# Altium schematic symbol library resistor.SchLib: 126 symbols
Pins are listed as number, name and electrical type; pins without a type are passive.

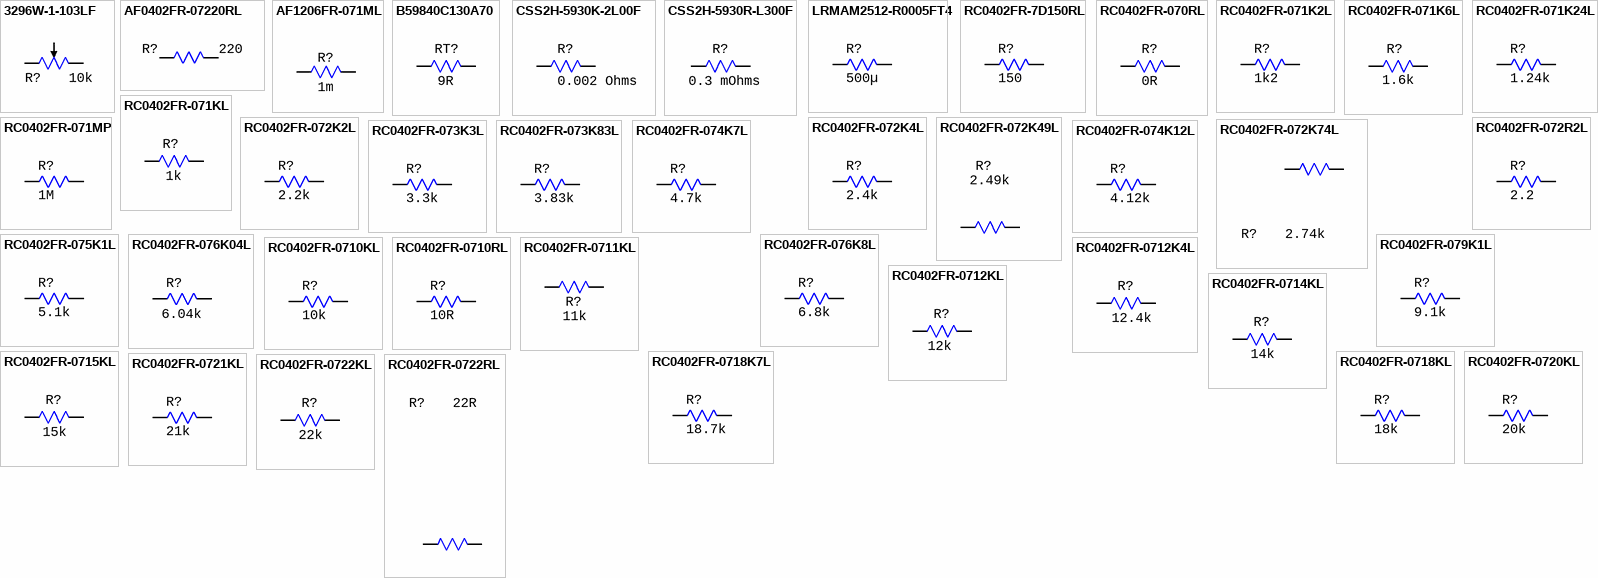
[diagram p0: symbols 3296W-1-103LF to RC0402FR-0722RL]

## 3296W-1-103LF
designator R?  value 10k  (hidden comment: 3296W-1-103LF)
10 kOhms, trimmer, ±10%, 0.5W, -55...+150°C; Manufacturer: Bourns; Package: series 3296W; PartNumber: 3296W-1-103LF; HelpURL: https://www.mouser.com/ProductDetail/Bourns/3296W-1-103LF?qs=CL3xLxiry19Id6AEaxYcng%3D%3D; Manufacturer Part Number: 3296W-1-103LF; Component Type: Resistors
footprint RES: 3296W
pins: 1, 2, 3

## AF0402FR-07220RL
designator R?  value 220  (hidden comment: AF0402FR-07220RL)
220 Ohms, 0402, ±1%, 0.062W, -55...+155°C; Manufacturer: YAGEO; HelpURL: https://www.mouser.com/ProductDetail/YAGEO/AF0402FR-07220RL?qs=sGAEpiMZZMtlubZbdhIBINhe0vL5TjR%2FCrYWG0wbUXU%3D; Package: 0402; PartNumber: AF0402FR-07220RL; Manufacturer: Yageo; Manufacturer Part Number: AF0402FR-07220RL; Component Type: Resistors
footprint RES: 0402
pins: 1, 2

## AF1206FR-071ML
designator R?  value 1m  (hidden comment: AF1206FR-071ML)
1 mOhm, 1206, ±1%, 0.25W, -55...+155°C; Manufacturer: YAGEO; HelpURL: https://ru.mouser.com/ProductDetail/YAGEO/AF1206FR-071ML?qs=tggtontpCXPv%2F48xNJRS4w%3D%3D; Package: 1206; PartNumber: AF1206FR-071ML; Manufacturer: Yageo; Manufacturer Part Number: AF1206FR-071ML; Component Type: Resistors
footprint RES: 1206
pins: 1, 2

## B59840C130A70
designator RT?  value 9R  (hidden comment: B59840C130A70)
9 Ohm, 13.5W, 500mA, 265V, D13.5W5H17, -55...+155°C; Manufacturer: Epcos; Manufacturer: TDK EPCOS; PartNumber: B59840C130A70; Package: 13.5W; HelpURL: https://eu.mouser.com/ProductDetail/EPCOS-TDK/B59840C0130A070?qs=MD70nW2XBGhFS7Nl3HSSzQ%3D%3D; Manufacturer Part Number: B59840C130A70; Component Type: Resistors
footprint RES: B59840C0130A070 (NTC)
pins: 1, 2

## CSS2H-5930K-2L00F
designator R?  value 0.002 Ohms  (hidden comment: CSS2H-5930K-2L00F)
0.002 Ohms, 2512, ±1%, 7W, -55...+170°C; Manufacturer: Bourns; PartNumber: CSS2H-5930K-2L00F; Package: 2512; HelpURL: https://ru.mouser.com/ProductDetail/Bourns/CSS2H-5930K-2L00F?qs=pxDZlBjcsCjmzKdgPBLOvQ%3D%3D
footprint RES: CSS2H (2512)
pins: 1, 2

## CSS2H-5930R-L300F
designator R?  value 0.3 mOhms  (hidden comment: CSS2H-5930R-L300F)
0.0003 Ohms, 2512, ±1%, 10W, -55...+170°C; Manufacturer: Bourns; PartNumber: CSS2H-5930R-L300F; Package: 2512; HelpURL: https://eu.mouser.com/ProductDetail/Bourns/CSS2H-5930R-L300F?qs=gZXFycFWdAPRQ8mnWAaExg%3D%3D
footprint RES: CSS2H (2512)
pins: 1, 2

## LRMAM2512-R0005FT4
designator R?  value 500µ  (hidden comment: LRMAM2512-R0005FT4)
0.5 mOhms, 2512, ±1%, 2W, -55...+170°C; Manufacturer: Welwyn; Manufacturer: TT Welwyn; HelpURL: https://ru.mouser.com/ProductDetail/Welwyn-Components-TT-Electronics/LRMAM2512-R0005FT4?qs=Yv8AqEUUgblwdfnpMPIknw%3D%3D; Package: 2512; PartNumber: LRMAM2512-R0005FT4; Manufacturer Part Number: LRMAM2512-R0005FT4; Component Type: Resistors
footprint RES: CSS2H (2512)
pins: 1, 2

## RC0402FR-7D150RL
designator R?  value 150  (hidden comment: RC0402FR-7D150RL)
150 Ohms, 0402, ±1%, 0.062W, -55...+155°C; Manufacturer: YAGEO; HelpURL: https://www.mouser.com/ProductDetail/YAGEO/RC0402FR-7D150RL?qs=sGAEpiMZZMtlubZbdhIBIAA5Rg%252BBqQHDXGXKYF%252BGXxw%3D; Package: 0402; PartNumber: RC0402FR-7D150RL; Manufacturer: Yageo; Manufacturer Part Number: RC0402FR-7D150RL; Component Type: Resistors
footprint RES: 0402
pins: 1, 2

## RC0402FR-070RL
designator R?  value 0R  (hidden comment: RC0402FR-070RL)
0 Ohms, 0402, ±1%, 0.062W, -55...+155°C; Manufacturer: Yageo; HelpURL: https://ru.mouser.com/ProductDetail/YAGEO/RC0402FR-070RL?qs=%2Fha2pyFaduhjtLcYvKXQ8C3M6h5LO%252B8bxxSVLF2BfkIYKpoExpS33A%3D%3D; PartNumber: RC0402FR-070RL; Package: 0402
footprint RES: 0402
pins: 1, 2

## RC0402FR-071K2L
designator R?  value 1k2  (hidden comment: RC0402FR-071K2L)
1.2 kOhm, 0402, ±1%, 0.062W, -55...+155°C; Manufacturer: Yageo; HelpURL: https://eu.mouser.com/ProductDetail/YAGEO/RC0402FR-071K2L?qs=sxZXDnvRBEhCt6dYrGrAQg%3D%3D; PartNumber: RC0402FR-071K2L; Package: 0402; Manufacturer Part Number: RC0402FR-071K2L; Component Type: Resistors
footprint RES: 0402
pins: 1, 2

## RC0402FR-071K6L
designator R?  value 1.6k  (hidden comment: RC0402FR-071K6L)
1.6 kOhms, 0402, ±1%, 0.062W, -55...+155°C; Manufacturer: Yageo; PartNumber: RC0402FR-071K6L; Package: 0402; HelpURL: https://ru.mouser.com/ProductDetail/YAGEO/RC0402FR-071K6L?qs=sxZXDnvRBEhm2IP6skMAcA%3D%3D; Manufacturer Part Number: RC0402FR-071K6L; Component Type: Resistors
footprint RES: 0402
pins: 1, 2

## RC0402FR-071K24L
designator R?  value 1.24k  (hidden comment: RC0402FR-071K24L)
1.24 kOhm, 0402, ±1%, 0.062W, -55...+155°C; Manufacturer: Yageo; Package: 0402; HelpURL: https://ru.mouser.com/ProductDetail/YAGEO/RC0402FR-071K24L?qs=4sq2y2bXwtQ3prtaMGN85w%3D%3D; PartNumber: RC0402FR-071K24L; Manufacturer Part Number: RC0402FR-071K24L; Component Type: Resistors
footprint RES: 0402
pins: 1, 2

## RC0402FR-071KL
designator R?  value 1k  (hidden comment: RC0402FR-071KL)
1 kOhm, 0402, ±1%, 0.062W, -55...+155°C; Manufacturer: Yageo; Package: 0402; PartNumber: RC0402FR-071KL; HelpURL: https://ru.mouser.com/ProductDetail/YAGEO/RC0402FR-071KL?qs=%2Fha2pyFaduhjtLcYvKXQ8KtFpWiP6FBRlw%252BwtvFACrzdbnVHgS60sg%3D%3D; Manufacturer Part Number: RC0402FR-071KL; Component Type: Resistors
footprint RES: 0402
pins: 1, 2

## RC0402FR-071MP
designator R?  value 1M  (hidden comment: RC0402FR-071MP)
1 MOhms, 0402, ±1%, 0.062W, -55...+155°C; Manufacturer: Yageo; PartNumber: RC0402FR-0793K1L; HelpURL: https://ru.mouser.com/ProductDetail/YAGEO/RC0402FR-071MP?qs=qpJ%252B%252B%252Bdg6p3ZHXW8hUlwzA%3D%3D; Package: 0402; Manufacturer Part Number: RC0402FR-071MP; Component Type: Resistors
footprint RES: 0402
pins: 1, 2

## RC0402FR-072K2L
designator R?  value 2.2k  (hidden comment: RC0402FR-072K2L)
2.2 kOhm, 0402, ±1%, 0.062W, -55...+155°C; Manufacturer: Yageo; Package: 0402; HelpURL: https://ru.mouser.com/ProductDetail/YAGEO/RC0402FR-072K2L?qs=%2Fha2pyFaduhjtLcYvKXQ8Bly%252BzpVgJqiuT0bye1WgWY%252B2iQPPgiVcg%3D%3D; PartNumber: RC0402FR-072K2L; Manufacturer Part Number: RC0402FR-072K2L; Component Type: Resistors
footprint RES: 0402
pins: 1, 2

## RC0402FR-072K4L
designator R?  value 2.4k  (hidden comment: RC0402FR-072K4L)
2.4 kOhm, 0402, ±1%, 0.062W, -55...+155°C; Manufacturer: Yageo; HelpURL: https://ru.mouser.com/ProductDetail/YAGEO/RC0402FR-072K4L?qs=UOUeRUa%252B8WnYYHH1JUkaSg%3D%3D; PartNumber: RC0402FR-072K4L; Package: 0402; Manufacturer Part Number: RC0402FR-072K4L; Component Type: Resistors
footprint RES: 0402
pins: 1, 2

## RC0402FR-072K49L
designator R?  value 2.49k  (hidden comment: RC0402FR-072K49L)
2.49 kOhm, 0402, ±1%, 0.062W, -55...+155°C; Manufacturer: Yageo; Package: 0402; PartNumber: RC0402FR-072K49L; HelpURL: https://eu.mouser.com/ProductDetail/YAGEO/RC0402FR-072K49L?qs=UOUeRUa%252B8WlwugWWtNNFpA%3D%3D; Manufacturer Part Number: RC0402FR-072K49L; Component Type: Resistors
footprint RES: 0402
pins: 1, 2

## RC0402FR-072K74L
designator R?  value 2.74k  (hidden comment: RC0402FR-072K74L)
2.74 kOhm, 0402, ±1%, 0.062W, -55...+155°C; Manufacturer: Yageo; Package: 0402; HelpURL: https://eu.mouser.com/ProductDetail/YAGEO/RC0402FR-072K74L?qs=V1yeUXFNrknJurbbD6Ur7A%3D%3D; PartNumber: RC0402FR-072K74L; Manufacturer Part Number: RC0402FR-072K74L; Component Type: Resistors
footprint RES: 0402
pins: 1, 2

## RC0402FR-072R2L
designator R?  value 2.2  (hidden comment: RC0402FR-072R2L)
2.2 Ohms, 0402, ±1%, 0.062W, -55...+155°C; Manufacturer: YAGEO; HelpURL: https://www.mouser.com/ProductDetail/YAGEO/RC0402FR-072R2L?qs=UOUeRUa%252B8WnU2b4Yaynl8g%3D%3D; PartNumber: RC0402FR-072R2L; Package: 0402; Manufacturer: Yageo; Manufacturer Part Number: RC0402FR-072R2L; Component Type: Resistors
footprint RES: 0402
pins: 1, 2

## RC0402FR-073K3L
designator R?  value 3.3k  (hidden comment: RC0402FR-073K3L)
3.3 kOhms, 0402, ±1%, 0.062W, -55...+155°C; Manufacturer: Yageo; Package: 0402; HelpURL: https://ru.mouser.com/ProductDetail/YAGEO/RC0402FR-073K3L?qs=%2Fha2pyFaduhjtLcYvKXQ8A9%2FIeuVIknrUTSq06xzlcmN78Uwcky75Q%3D%3D; PartNumber: RC0402FR-073K3L; Manufacturer Part Number: RC0402FR-073K3L; Component Type: Resistors
footprint RES: 0402
pins: 1, 2

## RC0402FR-073K83L
designator R?  value 3.83k  (hidden comment: RC0402FR-073K83L)
3.83 kOhms, 0402, ±1%, 0.062W, -55...+155°C; Manufacturer: Yageo; HelpURL: https://ru.mouser.com/ProductDetail/YAGEO/RC0402FR-073K83L?qs=uhiLka0QEaGZwk9iwOUzXA%3D%3D; Package: 0402; PartNumber: RC0402FR-073K83L; Manufacturer Part Number: RC0402FR-073K83L; Component Type: Resistors
footprint RES: 0402
pins: 1, 2

## RC0402FR-074K7L
designator R?  value 4.7k  (hidden comment: RC0402FR-074K7L)
4.7 kOhms, 0402, ±1%, 0.062W, -55...+155°C; Manufacturer: Yageo; HelpURL: https://ru.mouser.com/ProductDetail/YAGEO/RC0402FR-074K7L?qs=%2Fha2pyFaduhjtLcYvKXQ8HFlCsu%2FACgGUE09U4u%2FNk2eg7lEE%252Bz%2FpQ%3D%3D; PartNumber: RC0402FR-074K7L; Package: 0402
footprint RES: 0402
pins: 1, 2

## RC0402FR-074K12L
designator R?  value 4.12k  (hidden comment: RC0402FR-074K12L)
4.12 kOhms, 0402, ±1%, 0.062W, -55...+155°C; Manufacturer: Yageo; PartNumber: RC0402FR-074K12L; HelpURL: https://ru.mouser.com/ProductDetail/YAGEO/RC0402FR-074K12L?qs=%2Fha2pyFaduhjtLcYvKXQ8C%2FrFbD%252BqvVwZjXE9BOshznse7Kzwzl9CA%3D%3D; Package: 0402; Manufacturer Part Number: RC0402FR-074K12L; Component Type: Resistors
footprint RES: 0402
pins: 1, 2

## RC0402FR-075K1L
designator R?  value 5.1k  (hidden comment: RC0402FR-075K1L)
5.1 kOhms, 0402, ±1%, 0.062W, -55...+155°C; Manufacturer: Yageo; PartNumber: RC0402FR-075K1L; Package: 0402; HelpURL: https://ru.mouser.com/ProductDetail/YAGEO/RC0402FR-075K1L?qs=YUgVZYePFqCSmQuaha43RA%3D%3D; Manufacturer Part Number: RC0402FR-075K1L; Component Type: Resistors
footprint RES: 0402
pins: 1, 2

## RC0402FR-076K04L
designator R?  value 6.04k  (hidden comment: RC0402FR-076K04L)
6.04 kOhm, 0402, ±1%, 0.062W, -55...+155°C; Manufacturer: Yageo; PartNumber: RC0402FR-076K04L; Package: 0402; HelpURL: https://eu.mouser.com/ProductDetail/YAGEO/RC0402FR-076K04L?qs=Is6ZsIPfHkaeMTRntrAuZQ%3D%3D
footprint RES: 0402
pins: 1, 2

## RC0402FR-076K8L
designator R?  value 6.8k  (hidden comment: RC0402FR-076K8L)
6.8 kOhm, 0402, ±1%, 0.062W, -55...+155°C; Manufacturer: Yageo; PartNumber: RC0402FR-076K8L; Package: 0402; HelpURL: https://eu.mouser.com/ProductDetail/YAGEO/RC0402FR-076K8L?qs=V1yeUXFNrkmX0EPng%252BcJrA%3D%3D; Manufacturer Part Number: RC0402FR-076K8L; Component Type: Resistors
footprint RES: 0402
pins: 1, 2

## RC0402FR-079K1L
designator R?  value 9.1k  (hidden comment: RC0402FR-079K1L)
9.1 kOhms, 0402, ±1%, 0.062W, -55...+155°C; Manufacturer: Yageo; PartNumber: RC0402FR-079K1L; Package: 0402; HelpURL: https://ru.mouser.com/ProductDetail/YAGEO/RC0402FR-079K1L?qs=UOUeRUa%252B8WlBN3G%252BofbNng%3D%3D; Manufacturer Part Number: RC0402FR-079K1L; Component Type: Resistors
footprint RES: 0402
pins: 1, 2

## RC0402FR-0710KL
designator R?  value 10k  (hidden comment: RC0402FR-0710KL)
10 kOhms, 0402, ±1%, 0.062W, -55...+155°C; Manufacturer: Yageo; Package: 0402; HelpURL: https://ru.mouser.com/ProductDetail/YAGEO/RC0402FR-0710KL?qs=%2Fha2pyFaduhjtLcYvKXQ8IogF7YwN7YtH%252BOO8ZtEEMnoa4yoWYcwpw%3D%3D; PartNumber: RC0402FR-0710KL; Manufacturer Part Number: RC0402FR-0710KL; Component Type: Resistors
footprint RES: 0402
pins: 1, 2

## RC0402FR-0710RL
designator R?  value 10R  (hidden comment: RC0402FR-0710RL)
10 Ohms, 0402, ±1%, 0.062W, -55...+155°C; Manufacturer: Yageo; PartNumber: RC0402FR-0710RL; Package: 0402; HelpURL: https://ru.mouser.com/ProductDetail/YAGEO/RC0402FR-0710RL?qs=%2Fha2pyFaduhjtLcYvKXQ8LwITLmbLUP1QVAlWpeJZ7%2FWoDm0dlRgkQ%3D%3D; Manufacturer Part Number: RC0402FR-0710RL; Component Type: Resistors
footprint RES: 0402
pins: 1, 2

## RC0402FR-0711KL
designator R?  value 11k  (hidden comment: RC0402FR-0711KL)
11 kOhms, 0402, ±1%, 0.062W, -55...+155°C; Manufacturer: Yageo; HelpURL: https://ru.mouser.com/ProductDetail/YAGEO/RC0402FR-0711KL?qs=%2Fha2pyFaduhjtLcYvKXQ8DMtnHwwadwh1cS%2Fi7MesZUf2nIB%252BnpbJw%3D%3D; Package: 0402; PartNumber: RC0402FR-0711KL; Manufacturer Part Number: RC0402FR-0711KL; Component Type: Resistors
footprint RES: 0402
pins: 1, 2

## RC0402FR-0712K4L
designator R?  value 12.4k  (hidden comment: RC0402FR-0712K4L)
12.4 kOhms, 0402, ±1%, 0.062W, -55...+155°C; Manufacturer: Yageo; PartNumber: RC0402FR-0712K4L; Package: 0402; HelpURL: https://eu.mouser.com/ProductDetail/YAGEO/RC0402FR-0712K4L?qs=V1yeUXFNrkm%2FqL2k6A7hug%3D%3D
footprint RES: 0402
pins: 1, 2

## RC0402FR-0712KL
designator R?  value 12k  (hidden comment: RC0402FR-0712KL)
12 kOhms, 0402, ±1%, 0.062W, -55...+155°C; Manufacturer: Yageo; PartNumber: RC0402FR-0712KL; Package: 0402; HelpURL: https://ru.mouser.com/ProductDetail/YAGEO/RC0402FR-0712KL?qs=%2Fha2pyFaduhjtLcYvKXQ8PLUd7FliagNg7Lrg3co1GQnM8qOIXRHpw%3D%3D; Manufacturer Part Number: RC0402FR-0712KL; Component Type: Resistors
footprint RES: 0402
pins: 1, 2

## RC0402FR-0714KL
designator R?  value 14k  (hidden comment: RC0402FR-0714KL)
14 kOhms, 0402, ±1%, 0.062W, -55...+155°C; Manufacturer: Yageo; PartNumber: RC0402FR-0714KL; Package: 0402; HelpURL: https://eu.mouser.com/ProductDetail/YAGEO/RC0402FR-0714KL?qs=V1yeUXFNrkkP1b2NRkU0xg%3D%3D
footprint RES: 0402
pins: 1, 2

## RC0402FR-0715KL
designator R?  value 15k  (hidden comment: RC0402FR-0715KL)
15 kOhms, 0402, ±1%, 0.062W, -55...+155°C; Manufacturer: Yageo; PartNumber: RC0402FR-0715KL; Package: 0402; HelpURL: https://ru.mouser.com/ProductDetail/YAGEO/RC0402FR-0710KL?qs=%2Fha2pyFaduhjtLcYvKXQ8IogF7YwN7YtH%252BOO8ZtEEMnoa4yoWYcwpw%3D%3D
footprint RES: 0402
pins: 1, 2

## RC0402FR-0718K7L
designator R?  value 18.7k  (hidden comment: RC0402FR-0718K7L)
18.7 kOhm, 0402, ±1%, 0.062W, -55...+155°C; Manufacturer: Yageo; HelpURL: https://ru.mouser.com/ProductDetail/YAGEO/RC0402FR-0718K7L?qs=%2Fha2pyFaduhjtLcYvKXQ8KwSwdpaTqhjHkCcTs5AAonVXbsvKeQ44w%3D%3D; PartNumber: RC0402FR-0718K7L; Package: 0402; Manufacturer Part Number: RC0402FR-0718K7L; Component Type: Resistors
footprint RES: 0402
pins: 1, 2

## RC0402FR-0718KL
designator R?  value 18k  (hidden comment: RC0402FR-0718KL)
18 kOhm, 0402, ±1%, 0.062W, -55...+155°C; Manufacturer: Yageo; HelpURL: https://ru.mouser.com/ProductDetail/YAGEO/RC0402FR-072K2L?qs=%2Fha2pyFaduhjtLcYvKXQ8Bly%252BzpVgJqiuT0bye1WgWY%252B2iQPPgiVcg%3D%3D; Package: 0402; PartNumber: RC0402FR-0718KL; Manufacturer Part Number: RC0402FR-0718KL; Component Type: Resistors
footprint RES: 0402
pins: 1, 2

## RC0402FR-0720KL
designator R?  value 20k  (hidden comment: RC0402FR-0720KL)
20 kOhms, 0402, ±1%, 0.062W, -55...+155°C; Manufacturer: Yageo; HelpURL: https://ru.mouser.com/ProductDetail/YAGEO/RC0402FR-0720KL?qs=%2Fha2pyFaduhjtLcYvKXQ8LKALNwr3w9xtdRJ8fPqngHlV76w5CG2nQ%3D%3D; Package: 0402; PartNumber: RC0402FR-0720KL; Manufacturer Part Number: RC0402FR-0720KL; Component Type: Resistors
footprint RES: 0402
pins: 1, 2

## RC0402FR-0721KL
designator R?  value 21k  (hidden comment: RC0402FR-0721KL)
21 kOhms, 0402, ±1%, 0.062W, -55...+155°C; Manufacturer: Yageo; PartNumber: RC0402FR-0721KL; HelpURL: https://ru.mouser.com/ProductDetail/YAGEO/RC0402FR-0721KL?qs=%2Fha2pyFaduhjtLcYvKXQ8ISWO5K8dSYZmpotbh0CbDhXybY6A%2FFRAQ%3D%3D; Package: 0402; Manufacturer Part Number: RC0402FR-0721KL; Component Type: Resistors
footprint RES: 0402
pins: 1, 2

## RC0402FR-0722KL
designator R?  value 22k  (hidden comment: RC0402FR-0722KL)
22 kOhm, 0402, ±1%, 0.062W, -55...+155°C; Manufacturer: Yageo; HelpURL: https://eu.mouser.com/ProductDetail/YAGEO/RC0402FR-0722KL?qs=V1yeUXFNrkmuRDoZ5FJObQ%3D%3D; PartNumber: RC0402FR-0722KL; Package: 0402; Manufacturer Part Number: RC0402FR-0722KL; Component Type: Resistors
footprint RES: 0402
pins: 1, 2

## RC0402FR-0722RL
designator R?  value 22R  (hidden comment: RC0402FR-0722RL)
22 Ohms, 0402, ±1%, 0.062W, -55...+155°C; Manufacturer: Yageo; HelpURL: https://www.digikey.com/en/products/detail/yageo/RC0402FR-0722RL/726562?s=N4IgTCBcDaIEoGEAMAWJYBicC0SDsYYcAMiALoC%2BQA; Package: 0402; PartNumber: RC0402FR-0722RL; Manufacturer Part Number: RC0402FR-0722RL; Component Type: Resistors
footprint RES: 0402
pins: 1, 2

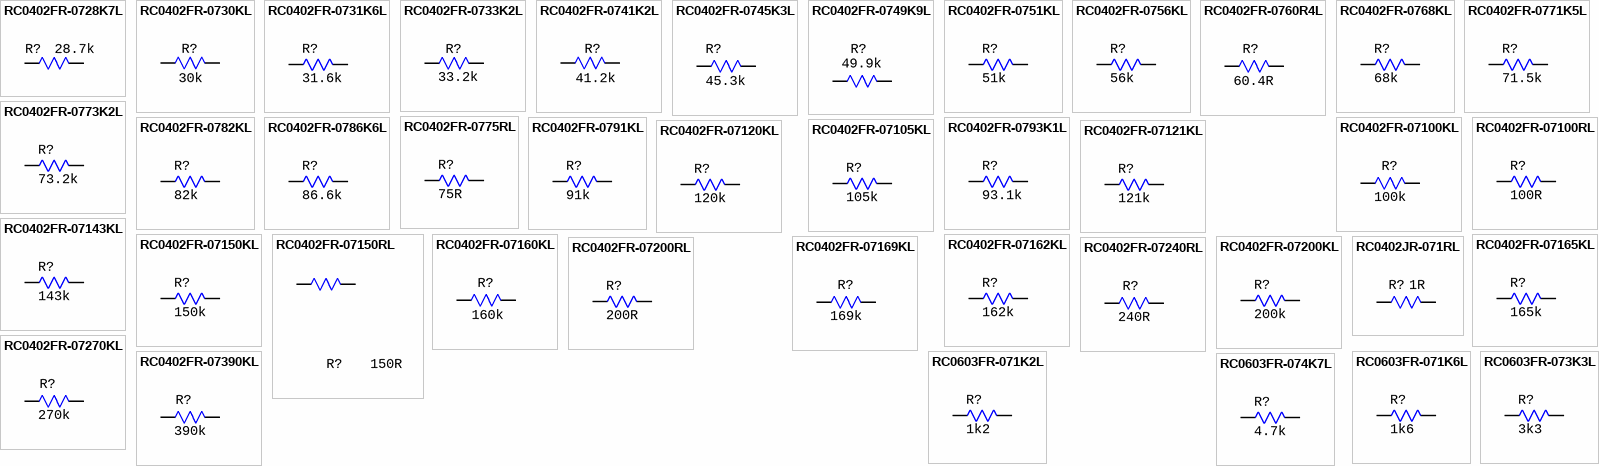
[diagram p1: symbols RC0402FR-0728K7L to RC0603FR-074K7L]

## RC0402FR-0728K7L
designator R?  value 28.7k  (hidden comment: RC0402FR-0728K7L)
28.7 kOhms, 0402, ±1%, 0.062W, -55...+155°C; Manufacturer: Yageo; Package: 0402; PartNumber: RC0402FR-0728K7L; HelpURL: https://ru.mouser.com/ProductDetail/YAGEO/RC0402FR-0728K7L?qs=%2Fha2pyFaduhjtLcYvKXQ8JReX529XZ5TKohCMlj%2F6WJAui2QCL6qWA%3D%3D; Manufacturer Part Number: RC0402FR-0728K7L; Component Type: Resistors
footprint RES: 0402
pins: 1, 2

## RC0402FR-0730KL
designator R?  value 30k  (hidden comment: RC0402FR-0730KL)
30 kOhms, 0402, ±1%, 0.062W, -55...+155°C; Manufacturer: Yageo; HelpURL: https://ru.mouser.com/ProductDetail/YAGEO/RC0402FR-0730KL?qs=%2Fha2pyFaduhjtLcYvKXQ8Ax7rE5GtFiYe2v6jsgoVLnJjFK1jYOAbg%3D%3D; Package: 0402; PartNumber: RC0402FR-0730KL; Manufacturer Part Number: RC0402FR-0730KL; Component Type: Resistors
footprint RES: 0402
pins: 1, 2

## RC0402FR-0731K6L
designator R?  value 31.6k  (hidden comment: RC0402FR-0731K6L)
31.6 kOhms, 0402, ±1%, 0.062W, -55...+155°C; Manufacturer: Yageo; PartNumber: RC0402FR-0731K6L; HelpURL: https://eu.mouser.com/ProductDetail/YAGEO/RC0402FR-0731K6L?qs=tQYgeJ5sXdm2wsAqEjplmg%3D%3D; Package: 0402; Manufacturer Part Number: RC0402FR-0731K6L; Component Type: Resistors
footprint RES: 0402
pins: 1, 2

## RC0402FR-0733K2L
designator R?  value 33.2k  (hidden comment: RC0402FR-0733K2L)
33.2 kOhms, 0402, ±1%, 0.062W, -55...+155°C; Manufacturer: Yageo; Package: 0402; HelpURL: https://ru.mouser.com/ProductDetail/YAGEO/RC0402FR-0733K2L?qs=%2Fha2pyFaduhjtLcYvKXQ8Azo4r0zZpwEvpf5UX8tAySLO75eqX0e6A%3D%3D; PartNumber: RC0402FR-0733K2L; Manufacturer Part Number: RC0402FR-0733K2L; Component Type: Resistors
footprint RES: 0402
pins: 1, 2

## RC0402FR-0741K2L
designator R?  value 41.2k  (hidden comment: RC0402FR-0741K2L)
41.2 kOhms, 0402, ±1%, 0.062W, -55...+155°C; Manufacturer: Yageo; HelpURL: https://ru.mouser.com/ProductDetail/YAGEO/RC0402FR-0741K2L?qs=%2Fha2pyFaduhjtLcYvKXQ8HUKzOChpCtZmfP26H44tp11uaYjza7p1w%3D%3D; Package: 0402; PartNumber: RC0402FR-0741K2L; Manufacturer Part Number: RC0402FR-0741K2L; Component Type: Resistors
footprint RES: 0402
pins: 1, 2

## RC0402FR-0745K3L
designator R?  value 45.3k  (hidden comment: RC0402FR-0745K3L)
45.3 kOhms, 0402, ±1%, 0.062W, -55...+155°C; Manufacturer: Yageo; HelpURL: https://ru.mouser.com/ProductDetail/YAGEO/RC0402FR-0745K3L?qs=%2Fha2pyFaduhjtLcYvKXQ8K9i7X5zdf9HBebY7VW%2FBaeetbt59pOldg%3D%3D; Package: 0402; PartNumber: RC0402FR-0745K3L; Manufacturer Part Number: RC0402FR-0745K3L; Component Type: Resistors
footprint RES: 0402
pins: 1, 2

## RC0402FR-0749K9L
designator R?  value 49.9k  (hidden comment: RC0402FR-0749K9L)
49.9 kOhm, 0402, ±1%, 0.062W, -55...+155°C; Manufacturer: Yageo; HelpURL: https://ru.mouser.com/ProductDetail/YAGEO/RC0402FR-0749K9L?qs=%2Fha2pyFaduhjtLcYvKXQ8GNmHZZjHieLOJTfiFW2XlywDBv2TH%2FqCw%3D%3D; Package: 0402; PartNumber: RC0402FR-0749K9L; Manufacturer Part Number: RC0402FR-0749K9L; Component Type: Resistors
footprint RES: 0402
pins: 1, 2

## RC0402FR-0751KL
designator R?  value 51k  (hidden comment: RC0402FR-0751KL)
51 kOhms, 0402, ±1%, 0.062W, -55...+155°C; Manufacturer: Yageo; PartNumber: RC0402FR-0751KL; HelpURL: https://eu.mouser.com/ProductDetail/YAGEO/RC0402FR-0751KL?qs=%252B0HKy5qiMX87b6W1NL2bhA%3D%3D; Package: 0402
footprint RES: 0402
pins: 1, 2

## RC0402FR-0756KL
designator R?  value 56k  (hidden comment: RC0402FR-0756KL)
56 kOhms, 0402, ±1%, 0.062W, -55...+155°C; Manufacturer: Yageo; PartNumber: RC0402FR-0756KL; HelpURL: https://ru.mouser.com/ProductDetail/YAGEO/RC0402FR-0756KL?qs=tdhZtq4uArKdf1KCobVxcg%3D%3D; Package: 0402; Manufacturer Part Number: RC0402FR-0756KL; Component Type: Resistors
footprint RES: 0402
pins: 1, 2

## RC0402FR-0760R4L
designator R?  value 60.4R  (hidden comment: RC0402FR-0760R4L)
60.4 Ohm, 0402, ±1%, 0.062W, -55...+155°C; Manufacturer: Yageo; PartNumber: RC0402FR-0760R4L; HelpURL: https://eu.mouser.com/ProductDetail/YAGEO/RC0402FR-0760R4L?qs=cL1JQ14qDnIV3vGgs9%252B4Dg%3D%3D; Package: 0402; Manufacturer Part Number: RC0402FR-0760R4L; Component Type: Resistors
footprint RES: 0402
pins: 1, 2

## RC0402FR-0768KL
designator R?  value 68k  (hidden comment: RC0402FR-0768KL)
68 kOhm, 0402, ±1%, 0.062W, -55...+155°C; Manufacturer: Yageo; PartNumber: RC0402FR-0768KL; HelpURL: https://ru.mouser.com/ProductDetail/YAGEO/RC0402FR-0768KL?qs=Is6ZsIPfHkZqrkXGHvEfjA%3D%3D; Package: 0402; Manufacturer Part Number: RC0402FR-0768KL; Component Type: Resistors
footprint RES: 0402
pins: 1, 2

## RC0402FR-0771K5L
designator R?  value 71.5k  (hidden comment: RC0402FR-0771K5L)
71.5 kOhm, 0402, ±1%, 0.062W, -55...+155°C; Manufacturer: Yageo; Package: 0402; PartNumber: RC0402FR-0771K5L; HelpURL: https://ru.mouser.com/ProductDetail/YAGEO/RC0402FR-0771K5L?qs=%2Fha2pyFaduhjtLcYvKXQ8NPqyCP38uLNt0vgdCLKhejYy6r1mfEObg%3D%3D; Manufacturer Part Number: RC0402FR-0771K5L; Component Type: Resistors
footprint RES: 0402
pins: 1, 2

## RC0402FR-0773K2L
designator R?  value 73.2k  (hidden comment: RC0402FR-0773K2L)
73.2 kOhm, 0402, ±1%, 0.062W, -55...+155°C; Manufacturer: Yageo; HelpURL: https://ru.mouser.com/ProductDetail/YAGEO/RC0402FR-0773K2L?qs=Is6ZsIPfHkYqK%252BA1vIha2w%3D%3D; Package: 0402; PartNumber: RC0402FR-0773K2L; Manufacturer Part Number: RC0402FR-0773K2L; Component Type: Resistors
footprint RES: 0402
pins: 1, 2

## RC0402FR-0775RL
designator R?  value 75R  (hidden comment: RC0402FR-0775RL)
75 Ohms, 0402, ±1%, 0.062W, -55...+155°C; Manufacturer: Yageo; Package: 0402; PartNumber: RC0402FR-0775RL; HelpURL: https://eu.mouser.com/ProductDetail/YAGEO/RC0402FR-0775RL?qs=IZrxGxQQvkPyWDcAbTGpuw%3D%3D
footprint RES: 0402
pins: 1, 2

## RC0402FR-0782KL
designator R?  value 82k  (hidden comment: RC0402FR-0782KL)
82 kOhms, 0402, ±1%, 0.062W, -55...+155°C; Manufacturer: Yageo; HelpURL: https://ru.mouser.com/ProductDetail/YAGEO/RC0402FR-0782KL?qs=%252B0HKy5qiMX%252BeWGv%2FCX8bvg%3D%3D; Package: 0402; PartNumber: RC0402FR-0782KL; Manufacturer Part Number: RC0402FR-0782KL; Component Type: Resistors
footprint RES: 0402
pins: 1, 2

## RC0402FR-0786K6L
designator R?  value 86.6k  (hidden comment: RC0402FR-0786K6L)
86.6 kOhms, 0402, ±1%, 0.062W, -55...+155°C; Manufacturer: Yageo; PartNumber: RC0402FR-0786K6L; HelpURL: https://ru.mouser.com/ProductDetail/YAGEO/RC0402FR-0786K6L?qs=UOUeRUa%252B8WmlyTWHg9CUOg%3D%3D; Package: 0402; Manufacturer Part Number: RC0402FR-0786K6L; Component Type: Resistors
footprint RES: 0402
pins: 1, 2

## RC0402FR-0791KL
designator R?  value 91k  (hidden comment: RC0402FR-0791KL)
91 kOhms, 0402, ±1%, 0.062W, -55...+155°C; Manufacturer: Yageo; HelpURL: https://nl.mouser.com/ProductDetail/YAGEO/RC0402FR-0791KL?qs=UOUeRUa%252B8WnaRbPLi5u%252BGw%3D%3D; PartNumber: RC0402FR-0791KL; Package: 0402
footprint RES: 0402
pins: 1, 2

## RC0402FR-0793K1L
designator R?  value 93.1k  (hidden comment: RC0402FR-0793K1L)
93.1 kOhm, 0402, ±1%, 0.062W, -55...+155°C; Manufacturer: Yageo; PartNumber: RC0402FR-0793K1L; Package: 0402; HelpURL: https://ru.mouser.com/ProductDetail/YAGEO/RC0402FR-0793K1L?qs=%2Fha2pyFaduhjtLcYvKXQ8Eeu5vdaZvxtCFeA5e1gFmzAzxYpJin6Dw%3D%3D; Manufacturer Part Number: RC0402FR-0793K1L; Component Type: Resistors
footprint RES: 0402
pins: 1, 2

## RC0402FR-07100KL
designator R?  value 100k  (hidden comment: RC0402FR-07100KL)
100 kOhms, 0402, ±1%, 0.062W, -55...+155°C; Manufacturer: YAGEO; HelpURL: https://ru.mouser.com/ProductDetail/YAGEO/RC0402FR-07100KL?qs=sGAEpiMZZMtlubZbdhIBIDGYITUTlqW8LpBDJSIWV20%3D; Package: 0402; PartNumber: RC0402FR-07100KL; Manufacturer: Yageo; Manufacturer Part Number: RC0402FR-07100KL; Component Type: Resistors
footprint RES: 0402
pins: 1, 2

## RC0402FR-07100RL
designator R?  value 100R  (hidden comment: RC0402FR-07100RL)
100 Ohms, 0402, ±1%, 0.062W, -55...+155°C; Manufacturer: Yageo; Manufacturer Part Number: RC0402FR-13100RL; HelpURL: https://ru.mouser.com/ProductDetail/YAGEO/RC0402FR-13100RL?qs=sGAEpiMZZMtlubZbdhIBIM2VF1SoZtZzoM%2FNel6tSqM%3D; PartNumber: RC0402FR-07100RL; Package: 0402; Component Type: Resistors
footprint RES: 0402
pins: 1, 2

## RC0402FR-07105KL
designator R?  value 105k  (hidden comment: RC0402FR-07105KL)
105 kOhm, 0402, ±1%, 0.062W, -55...+155°C; Manufacturer: Yageo; Package: 0402; PartNumber: RC0402FR-07105KL; HelpURL: https://ru.mouser.com/ProductDetail/YAGEO/RC0402FR-07105KL?qs=%2Fha2pyFaduhjtLcYvKXQ8H8tNFxy%252BfixjeocODP%2FSkX3U3kUpU%2Fx6g%3D%3D; Manufacturer Part Number: RC0402FR-07105KL; Component Type: Resistors
footprint RES: 0402
pins: 1, 2

## RC0402FR-07120KL
designator R?  value 120k  (hidden comment: RC0402FR-07120KL)
120 kOhms, 0402, ±1%, 0.062W, -55...+155°C; Manufacturer: Yageo; Package: 0402; HelpURL: https://ru.mouser.com/ProductDetail/YAGEO/RC0402FR-07120KL?qs=sxZXDnvRBEiD8SsZ%252BM9D1g%3D%3D; PartNumber: RC0402FR-07120KL; Manufacturer Part Number: RC0402FR-07120KL; Component Type: Resistors
footprint RES: 0402
pins: 1, 2

## RC0402FR-07121KL
designator R?  value 121k  (hidden comment: RC0402FR-07121KL)
121 kOhms, 0402, ±1%, 0.062W, -55...+155°C; Manufacturer: Yageo; PartNumber: RC0402FR-07121KL; HelpURL: https://ru.mouser.com/ProductDetail/YAGEO/RC0402FR-07121KL?qs=%2Fha2pyFaduhjtLcYvKXQ8AieznEeRK3tiCXlbzrNrwV%252BF8DwaST6AQ%3D%3D; Package: 0402; Manufacturer Part Number: RC0402FR-07121KL; Component Type: Resistors
footprint RES: 0402
pins: 1, 2

## RC0402FR-07143KL
designator R?  value 143k  (hidden comment: RC0402FR-07143KL)
143 kOhm, 0402, ±1%, 0.062W, -55...+155°C; Manufacturer: Yageo; Package: 0402; PartNumber: RC0402FR-07143KL; HelpURL: https://ru.mouser.com/ProductDetail/YAGEO/RC0402FR-07143KL?qs=%2Fha2pyFaduhjtLcYvKXQ8NZq8afZ%2FxTbVq%2Fv7mTZ06WjUGSoqy324g%3D%3D; Manufacturer Part Number: RC0402FR-07143KL; Component Type: Resistors
footprint RES: 0402
pins: 1, 2

## RC0402FR-07150KL
designator R?  value 150k  (hidden comment: RC0402FR-07150KL)
150 kOhm, 0402, ±1%, 0.062W, -55...+155°C; Manufacturer: Yageo; HelpURL: https://ru.mouser.com/ProductDetail/YAGEO/RC0402FR-07150KL?qs=%2Fha2pyFaduhjtLcYvKXQ8D67BTeJZDxS3oYazXDByKq%2F0ZFbNBXH7A%3D%3D; Package: 0402; PartNumber: RC0402FR-07150KL; Manufacturer Part Number: RC0402FR-07150KL; Component Type: Resistors
footprint RES: 0402
pins: 1, 2

## RC0402FR-07150RL
designator R?  value 150R  (hidden comment: RC0402FR-07150RL)
150 Ohms, 0402, ±1%, 0.062W, -55...+155°C; Manufacturer: Yageo; Manufacturer Part Number: RC0402FR-7D150RL; Package: 0402; HelpURL: https://www.mouser.com/ProductDetail/YAGEO/RC0402FR-7D150RL?qs=sGAEpiMZZMtlubZbdhIBIAA5Rg%252BBqQHDXGXKYF%252BGXxw%3D; PartNumber: RC0402FR-07150RL; Component Type: Resistors
footprint RES: 0402
pins: 1, 2

## RC0402FR-07160KL
designator R?  value 160k  (hidden comment: RC0402FR-07160KL)
160 kOhm, 0402, ±1%, 0.062W, -55...+155°C; Manufacturer: Yageo; HelpURL: https://ru.mouser.com/ProductDetail/YAGEO/RC0402FR-07160KL?qs=%2Fha2pyFaduhjtLcYvKXQ8ETd%2Fes0T2ChzN3Sr0iWVCm0fq3lZiIG%252Bw%3D%3D; Package: 0402; PartNumber: RC0402FR-07160KL; Manufacturer Part Number: RC0402FR-07160KL; Component Type: Resistors
footprint RES: 0402
pins: 1, 2

## RC0402FR-07162KL
designator R?  value 162k  (hidden comment: RC0402FR-07162KL)
162 kOhm, 0402, ±1%, 0.062W, -55...+155°C; Manufacturer: Yageo; PartNumber: RC0402FR-07162KL; Package: 0402; HelpURL: https://ru.mouser.com/ProductDetail/YAGEO/RC0402FR-07162KL?qs=%2Fha2pyFaduhjtLcYvKXQ8B%2FigGZHzPHXj4KxUJH4NnjE8HCGJbNdvw%3D%3D; Manufacturer Part Number: RC0402FR-07162KL; Component Type: Resistors
footprint RES: 0402
pins: 1, 2

## RC0402FR-07165KL
designator R?  value 165k  (hidden comment: RC0402FR-07165KL)
165 kOhm, 0402, ±1%, 0.062W, -55...+155°C; Manufacturer: Yageo; HelpURL: https://ru.mouser.com/ProductDetail/YAGEO/RC0402FR-07165KL?qs=%2Fha2pyFaduhjtLcYvKXQ8J8BUaepJbh%2FurNBit3e1f3iYZXQ20nuiA%3D%3D; Package: 0402; PartNumber: RC0402FR-07165KL; Manufacturer Part Number: RC0402FR-07165KL; Component Type: Resistors
footprint RES: 0402
pins: 1, 2

## RC0402FR-07169KL
designator R?  value 169k  (hidden comment: RC0402FR-07169KL)
169 kOhm, 0402, ±1%, 0.062W, -55...+155°C; Manufacturer: Yageo; HelpURL: https://ru.mouser.com/ProductDetail/YAGEO/RC0402FR-07169KL?qs=%2Fha2pyFaduhjtLcYvKXQ8D478Pzl1P0SNjCEMhmXVM1qHZpWl%252BirhA%3D%3D; Package: 0402; PartNumber: RC0402FR-07169KL; Manufacturer Part Number: RC0402FR-07169KL; Component Type: Resistors
footprint RES: 0402
pins: 1, 2

## RC0402FR-07200KL
designator R?  value 200k  (hidden comment: RC0402FR-07200KL)
200 kOhms, 0402, ±1%, 0.062W, -55...+155°C; Manufacturer: Yageo; PartNumber: RC0402FR-07200KL; HelpURL: https://ru.mouser.com/ProductDetail/YAGEO/RC0402FR-07200KL?qs=%2Fha2pyFaduhjtLcYvKXQ8C5J%2FjEGOwY3Ap4PW5JkdfDjJs%2Fp8IkUVg%3D%3D; Package: 0402; Manufacturer Part Number: RC0402FR-07200KL; Component Type: Resistors
footprint RES: 0402
pins: 1, 2

## RC0402FR-07200RL
designator R?  value 200R  (hidden comment: RC0402FR-07200RL)
200 Ohms, 0402, ±1%, 0.062W, -55...+155°C; Manufacturer: Yageo; PartNumber: RC0402FR-07200RL; HelpURL: https://eu.mouser.com/ProductDetail/YAGEO/RC0402FR-07200RL?qs=NKHyz0HolODL018gN8NVYw%3D%3D; Package: 0402
footprint RES: 0402
pins: 1, 2

## RC0402FR-07240RL
designator R?  value 240R  (hidden comment: RC0402FR-07240RL)
240 Ohms, 0402, ±1%, 0.062W, -55...+155°C; Manufacturer: Yageo; Package: 0402; HelpURL: https://eu.mouser.com/ProductDetail/YAGEO/RC0402FR-07240RL?qs=UOUeRUa%252B8WlvTJm%2FWhbzSg%3D%3D; PartNumber: RC0402FR-07240RL; Manufacturer Part Number: RC0402FR-07240RL; Component Type: Resistors
footprint RES: 0402
pins: 1, 2

## RC0402FR-07270KL
designator R?  value 270k  (hidden comment: RC0402FR-07270KL)
270 kOhm, 0402, ±1%, 0.062W, -55...+155°C; Manufacturer: Yageo; Package: 0402; PartNumber: RC0402FR-07270KL; HelpURL: https://eu.mouser.com/ProductDetail/YAGEO/RC0402FR-07270KL?qs=UOUeRUa%252B8WkmVHKJdtfuOQ%3D%3D
footprint RES: 0402
pins: 1, 2

## RC0402FR-07390KL
designator R?  value 390k  (hidden comment: RC0402FR-07390KL)
390 kOhm, 0402, ±1%, 0.062W, -55...+155°C; Manufacturer: Yageo; Package: 0402; PartNumber: RC0402FR-07390KL; HelpURL: https://eu.mouser.com/ProductDetail/YAGEO/RC0402FR-07390KL?qs=UOUeRUa%252B8WmHWMH9x4xrhg%3D%3D
footprint RES: 0402
pins: 1, 2

## RC0402JR-071RL
designator R?  value 1R  (hidden comment: RC0402JR-071RL)
1 Ohms, 0402, ±5%, 0.062W, -55...+155°C; Manufacturer: Yageo; HelpURL: https://ru.mouser.com/ProductDetail/YAGEO/RC0402JR-071RL?qs=uM1JSSdPjOCYk3gn7XctaA%3D%3D; PartNumber: RC0402JR-071RL; Package: 0402; Manufacturer Part Number: RC0402JR-071RL; Component Type: Resistors
footprint RES: 0402
pins: 1, 2

## RC0603FR-071K2L
designator R?  value 1k2  (hidden comment: RC0603FR-071K2L)
1.2 kOhms, 0603, ±1%, 0.1W, -55...+155°C; Manufacturer: Yageo; Package: 0603; HelpURL: https://eu.mouser.com/ProductDetail/YAGEO/RC0603FR-071K2L?qs=VU8sRB4EgwBLEnKW6KYjqA%3D%3D; PartNumber: RC0603FR-071K2L
footprint RES: 0603
pins: 1, 2

## RC0603FR-071K6L
designator R?  value 1k6  (hidden comment: RC0603FR-071K6L)
1.6 kOhms, 0603, ±1%, 0.1W, -55...+155°C; Manufacturer: Yageo; Package: 0603; HelpURL: https://eu.mouser.com/ProductDetail/YAGEO/RC0603FR-071K6L?qs=VU8sRB4EgwCv%2FCM4oTO1jg%3D%3D; PartNumber: RC0603FR-071K6L
footprint RES: 0603
pins: 1, 2

## RC0603FR-073K3L
designator R?  value 3k3  (hidden comment: RC0603FR-073K3L)
3.3 kOhms, 0603, ±1%, 0.1W, -55...+155°C; Manufacturer: Yageo; HelpURL: https://eu.mouser.com/ProductDetail/YAGEO/RC0603FR-073K3L?qs=gt6vzsuosg2EoNiKbtAsfQ%3D%3D; Package: 0603; PartNumber: RC0603FR-073K3L; Manufacturer Part Number: RC0603FR-073K3L; Component Type: Resistors
footprint RES: 0603
pins: 1, 2

## RC0603FR-074K7L
designator R?  value 4.7k  (hidden comment: RC0603FR-074K7L)
4.7 kOhms, 0603, ±1%, 0.1W, -55...+155°C; Manufacturer: YAGEO; PartNumber: RC0603FR-074K7L; Package: 0603; HelpURL: https://www.mouser.com/ProductDetail/YAGEO/RC0603FR-074K7L?qs=gt6vzsuosg37y0l7Vt36bQ%3D%3D; Manufacturer: Yageo; Manufacturer Part Number: RC0603FR-074K7L; Component Type: Resistors
footprint RES: 0603
pins: 1, 2

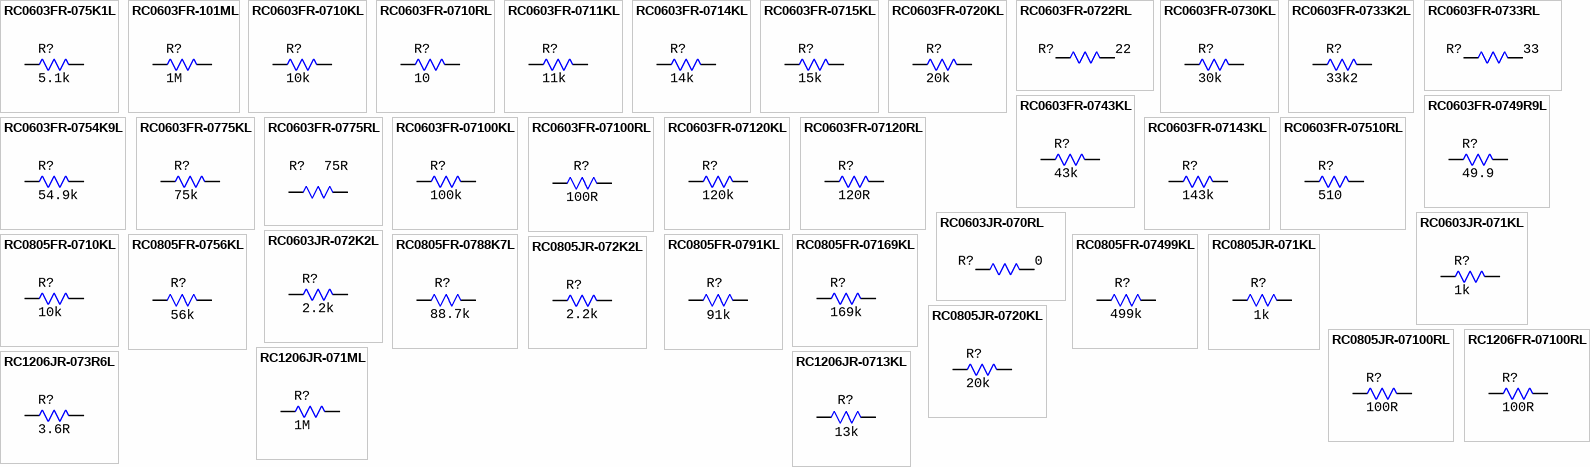
[diagram p2: symbols RC0603FR-075K1L to RC1206JR-0713KL]

## RC0603FR-075K1L
designator R?  value 5.1k  (hidden comment: RC0603FR-075K1L)
5.1 kOhms, 0603, ±1%, 0.1W, -55...+155°C; Manufacturer: Yageo; PartNumber: RC0603FR-075K1L; Package: 0603; HelpURL: https://eu.mouser.com/ProductDetail/YAGEO/RC0603FR-075K1L?qs=gt6vzsuosg2jUUwxnI2PJQ%3D%3D
footprint RES: 0603
pins: 1, 2

## RC0603FR-101ML
designator R?  value 1M  (hidden comment: RC0603FR-101ML)
1 MOhm, 0603, ±1%, 0.1W, -55...+155°C; Manufacturer: YAGEO; Package: 0603; PartNumber: RC0603FR-101ML; HelpURL: https://www.mouser.com/ProductDetail/YAGEO/RC0603FR-101ML?qs=sGAEpiMZZMvdGkrng054t8AJgcdMkx7xggU5SeecKzc%3D; Manufacturer: Yageo; Manufacturer Part Number: RC0603FR-101ML; Component Type: Resistors
footprint RES: 0603
pins: 1, 2

## RC0603FR-0710KL
designator R?  value 10k  (hidden comment: RC0603FR-0710KL)
10 kOhms, 0603, ±1%, 0.1W, -55...+155°C; Manufacturer: Yageo; PartNumber: RC0603FR-0710KL; Package: 0603; HelpURL: https://ru.mouser.com/ProductDetail/YAGEO/RC0603FR-0710KL?qs=%2Fha2pyFaduhXXNW8qwNUNiw8kLtHezvba1btfWQYTvQl0E5hN277pA%3D%3D; Manufacturer Part Number: RC0603FR-0710KL; Component Type: Resistors
footprint RES: 0603
pins: 1, 2

## RC0603FR-0710RL
designator R?  value 10  (hidden comment: RC0603FR-0710RL)
10 Ohms, 0603, ±1%, 0.1W, -55...+155°C; Manufacturer: YAGEO; HelpURL: https://ru.mouser.com/ProductDetail/YAGEO/RC0603FR-0710RL?qs=sGAEpiMZZMtlubZbdhIBIEJ6ou9W0oMcX9JCuKXUgR0%3D; PartNumber: RC0603FR-0710RL; Package: 0603; Manufacturer: Yageo; Manufacturer Part Number: RC0603FR-0710RL; Component Type: Resistors
footprint RES: 0603
pins: 1, 2

## RC0603FR-0711KL
designator R?  value 11k  (hidden comment: RC0603FR-0711KL)
11 kOhms, 0603, ±1%, 0.1W, -55...+155°C; Manufacturer: Yageo; PartNumber: RC0603FR-0711KL; Package: 0603; HelpURL: https://eu.mouser.com/ProductDetail/YAGEO/RC0603FR-0711KL?qs=uM1JSSdPjOBCC%2Fvc2q0ieg%3D%3D
footprint RES: 0603
pins: 1, 2

## RC0603FR-0714KL
designator R?  value 14k  (hidden comment: RC0603FR-0714KL)
14 kOhms, 0603, ±1%, 0.1W, -55...+155°C; Manufacturer: Yageo; PartNumber: RC0603FR-0714KL; HelpURL: https://eu.mouser.com/ProductDetail/YAGEO/RC0603FR-0715KL?qs=VU8sRB4EgwBhsSCK0A%252BW%252Bw%3D%3D; Package: 0603
footprint RES: 0603
pins: 1, 2

## RC0603FR-0715KL
designator R?  value 15k  (hidden comment: RC0603FR-0715KL)
15 kOhms, 0603, ±1%, 0.1W, -55...+155°C; Manufacturer: Yageo; PartNumber: RC0603FR-0715KL; HelpURL: https://eu.mouser.com/ProductDetail/YAGEO/RC0603FR-0715KL?qs=VU8sRB4EgwBhsSCK0A%252BW%252Bw%3D%3D; Package: 0603
footprint RES: 0603
pins: 1, 2

## RC0603FR-0720KL
designator R?  value 20k  (hidden comment: RC0603FR-0720KL)
20 kOhms, 0603, ±1%, 0.1W, -55...+155°C; Manufacturer: Yageo; HelpURL: https://ru.mouser.com/ProductDetail/YAGEO/RC0603JR-0720KL?qs=%2F9ZTgpVJnN6VD8n21muhzw%3D%3D; Package: 0603; PartNumber: RC0603FR-0720KL
footprint RES: 0603
pins: 1, 2

## RC0603FR-0722RL
designator R?  value 22  (hidden comment: RC0603FR-0722RL)
22 Ohms, 0603, ±1%, 0.1W, -55...+155°C; Manufacturer: YAGEO; Package: 0603; PartNumber: RC0603FR-0722RL; HelpURL: https://www.mouser.com/ProductDetail/YAGEO/RC0603FR-0722RL?qs=diQw95jMAeMOsxb8bne7fg%3D%3D; Manufacturer: Yageo; Manufacturer Part Number: RC0603FR-0722RL; Component Type: Resistors
footprint RES: 0603
pins: 1, 2

## RC0603FR-0730KL
designator R?  value 30k  (hidden comment: RC0603FR-0730KL)
30 kOhms, 0603, ±1%, 0.1W, -55...+155°C; Manufacturer: Yageo; PartNumber: RC0603FR-0730KL; HelpURL: https://eu.mouser.com/ProductDetail/YAGEO/RC0603FR-0730KL?qs=diQw95jMAeNFr44yr782FQ%3D%3D; Package: 0603
footprint RES: 0603
pins: 1, 2

## RC0603FR-0733K2L
designator R?  value 33k2  (hidden comment: RC0603FR-0733K2L)
33.2 kOhms, 0603, ±1%, 0.1W, -55...+155°C; Manufacturer: Yageo; HelpURL: https://eu.mouser.com/ProductDetail/YAGEO/RC0603FR-0733K2L?qs=diQw95jMAePqooWhmrr3cA%3D%3D; Package: 0603; PartNumber: RC0603FR-0733K2L; Manufacturer Part Number: RC0603FR-0733K2L; Component Type: Resistors
footprint RES: 0603
pins: 1, 2

## RC0603FR-0733RL
designator R?  value 33  (hidden comment: RC0603FR-0733RL)
33 Ohms, 0603, ±1%, 0.1W, -55...+155°C; Manufacturer: YAGEO; HelpURL: https://ru.mouser.com/ProductDetail/YAGEO/RC0603FR-0733RL?qs=diQw95jMAeMotgif2GSHTQ%3D%3D; PartNumber: RC0603FR-0733RL; Package: 0603; Manufacturer: Yageo; Manufacturer Part Number: RC0603FR-0733RL; Component Type: Resistors
footprint RES: 0603
pins: 1, 2

## RC0603FR-0743KL
designator R?  value 43k  (hidden comment: RC0603FR-0743KL)
43 kOhms, 0603, ±1%, 0.1W, -55...+155°C; Manufacturer: Yageo; PartNumber: RC0603FR-0743KL; Package: 0603; HelpURL: https://eu.mouser.com/ProductDetail/YAGEO/RC0603FR-0743KL?qs=gt6vzsuosg2GSuoT7107rQ%3D%3D
footprint RES: 0603
pins: 1, 2

## RC0603FR-0749R9L
designator R?  value 49.9  (hidden comment: RC0603FR-0749R9L)
49.9 Ohms, 0603, ±1%, 0.1W, -55...+155°C; Manufacturer: YAGEO; PartNumber: RC0603FR-0749R9L; Package: 0603; HelpURL: https://www.mouser.com/ProductDetail/YAGEO/RC0603FR-0749R9L?qs=NEN%2FsE%2FLsvNRW8WFDtCPgQ%3D%3D; Manufacturer: Yageo; Manufacturer Part Number: RC0603FR-0749R9L; Component Type: Resistors
footprint RES: 0603
pins: 1, 2

## RC0603FR-0754K9L
designator R?  value 54.9k  (hidden comment: RC0603FR-0754K9L)
54.9 kOhms, 0603, ±1%, 0.1W, -55...+155°C; Manufacturer: Yageo; PartNumber: RC0603FR-0754K9L; Package: 0603; HelpURL: https://eu.mouser.com/ProductDetail/YAGEO/RC0603FR-0754K9L?qs=EiqXWrxQq63Er7G57COdWQ%3D%3D
footprint RES: 0603
pins: 1, 2

## RC0603FR-0775KL
designator R?  value 75k  (hidden comment: RC0603FR-0775KL)
75 kOhms, 0603, ±1%, 0.1W, -55...+155°C; Manufacturer: Yageo; PartNumber: RC0603FR-0775KL; Package: 0603; HelpURL: https://eu.mouser.com/ProductDetail/YAGEO/RC0603FR-0775KL?qs=2cAdsCoAWRFA%2FpEX9%2F7xpw%3D%3D
footprint RES: 0603
pins: 1, 2

## RC0603FR-0775RL
designator R?  value 75R  (hidden comment: RC0603FR-0775RL)
75 Ohms, 0603, ±1%, 0.1W, -55...+155°C; Manufacturer: Yageo; PartNumber: RC0603FR-0775RL; Package: 0603; HelpURL: https://ru.mouser.com/ProductDetail/YAGEO/RC0603FR-0775RL?qs=NEN%2FsE%2FLsvOyCMLfQoUEYg%3D%3D; Manufacturer Part Number: RC0603FR-0775RL; Component Type: Resistors
footprint RES: 0603
pins: 1, 2

## RC0603FR-07100KL
designator R?  value 100k  (hidden comment: RC0603FR-07100KL)
100 kOhms, 0603, ±1%, 0.1W, -55...+155°C; Manufacturer: Yageo; HelpURL: https://ru.mouser.com/ProductDetail/YAGEO/RC0603FR-0710KL?qs=%2Fha2pyFaduhXXNW8qwNUNiw8kLtHezvba1btfWQYTvQl0E5hN277pA%3D%3D; Package: 0603; PartNumber: RC0603FR-07100KL; Manufacturer Part Number: RC0603FR-07100KL; Component Type: Resistors
footprint RES: 0603
pins: 1, 2

## RC0603FR-07100RL
designator R?  value 100R  (hidden comment: RC0603FR-07100RL)
100 Ohms, 0603, ±1%, 0.1W, -55...+155°C; Manufacturer: Yageo; Package: 0603; HelpURL: https://ru.mouser.com/ProductDetail/YAGEO/RC0603FR-07100RL?qs=%2Fha2pyFaduhXXNW8qwNUNvJIH0oaVQXlpjIMIWsIu0RDEvG1pjQv8w%3D%3D; PartNumber: RC0603FR-07100RL; Manufacturer Part Number: RC0603FR-07100RL; Component Type: Resistors
footprint RES: 0603
pins: 1, 2

## RC0603FR-07120KL
designator R?  value 120k  (hidden comment: RC0603FR-07120KL)
120 kOhms, 0603, ±1%, 0.062W, -55...+155°C; Manufacturer: Yageo; HelpURL: https://eu.mouser.com/ProductDetail/YAGEO/RC0603FR-07120KL?qs=IuGqVx9wL0JtpsOJLI%252BszA%3D%3D; PartNumber: RC0603FR-07120KL; Package: 0603
footprint RES: 0603
pins: 1, 2

## RC0603FR-07120RL
designator R?  value 120R  (hidden comment: RC0603FR-07120RL)
120 Ohms, 0603, ±1%, 0.062W, -55...+155°C; Manufacturer: Yageo; HelpURL: https://eu.mouser.com/ProductDetail/YAGEO/RC0603FR-07120RL?qs=uM1JSSdPjOCKJQFXEGGb5w%3D%3D; PartNumber: RC0603FR-07120RL; Package: 0603
footprint RES: 0603
pins: 1, 2

## RC0603FR-07143KL
designator R?  value 143k  (hidden comment: RC0603FR-07143KL)
143 kOhms, 0603, ±1%, 0.1W, -55...+155°C; Manufacturer: Yageo; PartNumber: RC0603FR-07143KL; HelpURL: https://eu.mouser.com/ProductDetail/YAGEO/RC0603FR-07143KL?qs=IuGqVx9wL0I9yevS9IvNIg%3D%3D; Package: 0603
footprint RES: 0603
pins: 1, 2

## RC0603FR-07510RL
designator R?  value 510  (hidden comment: RC0603FR-07510RL)
510 Ohms, 0603, ±1%, 0.1W, -55...+155°C; Manufacturer: YAGEO; HelpURL: https://www.mouser.com/ProductDetail/YAGEO/RC0603FR-07510RL?qs=gt6vzsuosg04lV7mPQHzdw%3D%3D; PartNumber: RC0603FR-07510RL; Package: 0603; Manufacturer: Yageo; Manufacturer Part Number: RC0603FR-07510RL; Component Type: Resistors
footprint RES: 0603
pins: 1, 2

## RC0603JR-070RL
designator R?  value 0  (hidden comment: RC0603JR-070RL)
0 Ohms, 0603, ±5%, 0.1W, -55...+155°C; Manufacturer: Yageo; HelpURL: https://ru.mouser.com/ProductDetail/YAGEO/RC0603JR-070RL?qs=sGAEpiMZZMtlubZbdhIBIP1i7CT%2FCYQhBC%2FfY1KUKW0%3D; Package: 0603; PartNumber: RC0603JR-070RL
footprint RES: 0603
pins: 1, 2

## RC0603JR-071KL
designator R?  value 1k  (hidden comment: RC0603JR-071KL)
1 kOhms, 0603, ±5%, 0.1W, -55...+155°C; Manufacturer: Yageo; PartNumber: RC0603JR-071KL; Package: 0603; HelpURL: https://ru.mouser.com/ProductDetail/YAGEO/RC0603JR-071KL?qs=%2Fha2pyFaduiI%252B%2F%2Fp%2FYhTTYiezRJ8nHxshEHwOaiSZf9t3tyz6IYSbg%3D%3D; Manufacturer Part Number: RC0603JR-071KL; Component Type: Resistors
footprint RES: 0603
pins: 1, 2

## RC0603JR-072K2L
designator R?  value 2.2k  (hidden comment: RC0603JR-072K2L)
2.2 kOhms, 0603, ±5%, 0.1W, -55...+155°C; Manufacturer: Yageo; PartNumber: RC0603JR-072K2L; Package: 0603; HelpURL: https://ru.mouser.com/ProductDetail/YAGEO/RC0603JR-072K2L?qs=%2Fha2pyFaduiI%252B%2F%2Fp%2FYhTTaFSxlGSIu340Vfvq0VdZaJsYzYysKWi8A%3D%3D; Manufacturer Part Number: RC0603JR-072K2L; Component Type: Resistors
footprint RES: 0603
pins: 1, 2

## RC0805FR-0710KL
designator R?  value 10k  (hidden comment: RC0805FR-0710KL)
10 kOhms, 0805, ±1%, 0.125W, -55...+155°C; Manufacturer: Yageo; HelpURL: https://ru.mouser.com/ProductDetail/YAGEO/RC0805JR-07100RL?qs=KyGMWp10UktK72I3hB%252BlJQ%3D%3D; Package: 0805; PartNumber: RC0805FR-0710KL; Manufacturer Part Number: RC0805FR-0710KL; Component Type: Resistors
footprint RES: 0805
pins: 1, 2

## RC0805FR-0756KL
designator R?  value 56k  (hidden comment: RC0805FR-0756KL)
56 kOhms, 0805, ±1%, 0.125W, -55...+155°C; Manufacturer: Yageo; Package: 0805; HelpURL: https://ru.mouser.com/ProductDetail/YAGEO/RC0805FR-0756KL?qs=%2Fha2pyFadugqH4HCO4leffstFaEE3Ri8cbLKtxeksOTlH63Jfi8EgA%3D%3D; PartNumber: RC0805FR-0756KL; Manufacturer Part Number: RC0805FR-0756KL; Component Type: Resistors
footprint RES: 0805
pins: 1, 2

## RC0805FR-0788K7L
designator R?  value 88.7k  (hidden comment: RC0805FR-0788K7L)
88.7 kOhms, 0805, ±1%, 0.125W, -55...+155°C; Manufacturer: Yageo; Package: 0805; PartNumber: RC0805FR-0788K7L; HelpURL: https://ru.mouser.com/ProductDetail/YAGEO/RC0805FR-0788K7L?qs=%2Fha2pyFadugqH4HCO4lefTTzmSvm2oWj3HCZaVZwjh7cHzO3qt%2FPjg%3D%3D; Manufacturer Part Number: RC0805FR-0788K7L; Component Type: Resistors
footprint RES: 0805
pins: 1, 2

## RC0805FR-0791KL
designator R?  value 91k  (hidden comment: RC0805FR-0791KL)
91 kOhms, 0805, ±1%, 0.125W, -55...+155°C; Manufacturer: Yageo; PartNumber: RC0805FR-0791KL; HelpURL: https://ru.mouser.com/ProductDetail/YAGEO/RC0805FR-0791KL?qs=%2Fha2pyFadugqH4HCO4lefdnj%2FiuweBni91y5aRnGfOemAl5SKcIxlg%3D%3D; Package: 0805; Manufacturer Part Number: RC0805FR-0791KL; Component Type: Resistors
footprint RES: 0805
pins: 1, 2

## RC0805FR-07169KL
designator R?  value 169k  (hidden comment: RC0805FR-07169KL)
169 kOhms, 0805, ±1%, 0.125W, -55...+155°C; Manufacturer: Yageo; Package: 0805; HelpURL: https://ru.mouser.com/ProductDetail/YAGEO/RC0805JR-07100RL?qs=KyGMWp10UktK72I3hB%252BlJQ%3D%3D; PartNumber: RC0805FR-07169KL; Manufacturer Part Number: RC0805FR-07169KL; Component Type: Resistors
footprint RES: 0805
pins: 1, 2

## RC0805FR-07499KL
designator R?  value 499k  (hidden comment: RC0805FR-07499KL)
88.7 kOhms, 0805, ±1%, 0.125W, -55...+155°C; Manufacturer: Yageo; Package: 0805; PartNumber: RC0805FR-07499KL; HelpURL: https://ru.mouser.com/ProductDetail/YAGEO/RC0805FR-0788K7L?qs=%2Fha2pyFadugqH4HCO4lefTTzmSvm2oWj3HCZaVZwjh7cHzO3qt%2FPjg%3D%3D; Manufacturer Part Number: RC0805FR-07499KL; Component Type: Resistors
footprint RES: 0805
pins: 1, 2

## RC0805JR-071KL
designator R?  value 1k  (hidden comment: RC0805JR-071KL)
1 kOhms, 0805, ±5%, 0.125W, -55...+155°C; Manufacturer: Yageo; PartNumber: RC0805JR-071KL; Package: 0805; HelpURL: https://eu.mouser.com/ProductDetail/YAGEO/RC0805JR-071KL?qs=KyGMWp10UkuwbpWNcSKeOA%3D%3D; Manufacturer Part Number: RC0805JR-071KL; Component Type: Resistors
footprint RES: 0805
pins: 1, 2

## RC0805JR-072K2L
designator R?  value 2.2k  (hidden comment: RC0805JR-072K2L)
2.2 kOhms, 0805, ±5%, 0.125W, -55...+155°C; Manufacturer: Yageo; Manufacturer Part Number: RC0805JR-07100RL; HelpURL: https://ru.mouser.com/ProductDetail/YAGEO/RC0805JR-072K2L?qs=%2Fha2pyFaduhvHrWBLnfTOsZlfJho%252BkxfhHuSTm%2FZKDDQ9oJ5uqlQvw%3D%3D; Package: 0805; PartNumber: RC0805JR-072K2L; Component Type: Resistors
footprint RES: 0805
pins: 1, 2

## RC0805JR-0720KL
designator R?  value 20k  (hidden comment: RC0805JR-0720KL)
20 kOhms, 0805, ±5%, 0.125W, -55...+155°C; Manufacturer: Yageo; HelpURL: https://ru.mouser.com/ProductDetail/YAGEO/RC0805JR-0720KL?qs=KyGMWp10UktRxKX48bsnHQ%3D%3D; PartNumber: RC0805JR-0720KL; Package: 0805; Manufacturer Part Number: RC0805JR-0720KL; Component Type: Resistors
footprint RES: 0805
pins: 1, 2

## RC0805JR-07100RL
designator R?  value 100R  (hidden comment: RC0805JR-07100RL)
100 Ohms, 0805, ±5%, 0.125W, -55...+155°C; Manufacturer: Yageo; HelpURL: https://ru.mouser.com/ProductDetail/YAGEO/RC0805JR-07100RL?qs=KyGMWp10UktK72I3hB%252BlJQ%3D%3D; PartNumber: RC0805JR-07100RL; Package: 0805; Manufacturer Part Number: RC0805JR-07100RL; Component Type: Resistors
footprint RES: 0805
pins: 1, 2

## RC1206FR-07100RL
designator R?  value 100R  (hidden comment: RC1206FR-07100RL)
100 Ohms, 1206, ±1%, 0.25W, -55...+155°C; Manufacturer: Yageo; PartNumber: RC1206FR-07100RL; Package: 1206; HelpURL: https://eu.mouser.com/ProductDetail/YAGEO/RC1206FR-07100RL?qs=95p1rjcSoiyYE%2Fn9Zjq2BQ%3D%3D; Manufacturer Part Number: RC1206FR-07100RL; Component Type: Resistors
footprint RES: 1206
pins: 1, 2

## RC1206JR-071ML
designator R?  value 1M  (hidden comment: RC1206JR-071ML)
1 MOhms, 1206, ±5%, 0.25W, -55...+155°C; Manufacturer: Yageo; PartNumber: RC1206JR-071ML; HelpURL: https://eu.mouser.com/ProductDetail/YAGEO/RC1206JR-071ML?qs=CteSnpDdeuDKZZVFHoe1QQ%3D%3D; Package: 1206; Manufacturer Part Number: RC1206JR-071ML; Component Type: Resistors
footprint RES: 1206
pins: 1, 2

## RC1206JR-073R6L
designator R?  value 3.6R  (hidden comment: RC1206JR-073R6L)
3.6 Ohms, 1206, ±5%, 0.25W, -55...+155°C; Manufacturer: Yageo; Package: 1206; HelpURL: https://eu.mouser.com/ProductDetail/YAGEO/RC1206JR-073R6L?qs=bz%2FLPVPAsTLr%252B4ZA%252BysClA%3D%3D; PartNumber: RC1206JR-073R6L
footprint RES: 1206
pins: 1, 2

## RC1206JR-0713KL
designator R?  value 13k  (hidden comment: RC1206JR-0713KL)
13 kOhms, 1206, ±5%, 0.25W, -55...+155°C; Manufacturer: Yageo; HelpURL: https://eu.mouser.com/ProductDetail/YAGEO/RC1206JR-0713KL?qs=rU22MploB9ouhssgGp0HLA%3D%3D; PartNumber: RC1206JR-0713KL; Package: 1206
footprint RES: 1206
pins: 1, 2

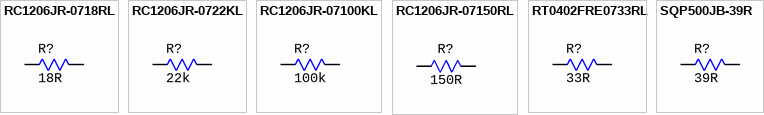
[diagram p3: symbols RC1206JR-0718RL to SQP500JB-39R]

## RC1206JR-0718RL
designator R?  value 18R  (hidden comment: RC1206JR-0718RL)
18 Ohms, 1206, ±5%, 0.25W, -55...+155°C; Manufacturer: Yageo; Package: 1206; HelpURL: https://eu.mouser.com/ProductDetail/YAGEO/RC1206JR-0718RL?qs=NYCA8QTrbvceaLLlbQ8r9w%3D%3D; PartNumber: RC1206JR-0718RL
footprint RES: 1206
pins: 1, 2

## RC1206JR-0722KL
designator R?  value 22k  (hidden comment: RC1206JR-0722KL)
22 kOhms, 1206, ±5%, 0.25W, -55...+155°C; Manufacturer: Yageo; Package: 1206; HelpURL: https://eu.mouser.com/ProductDetail/YAGEO/RC1206JR-0722KL?qs=CteSnpDdeuBKh3t7xZNWrw%3D%3D; PartNumber: RC1206JR-0722KL; Manufacturer Part Number: RC1206JR-0722KL; Component Type: Resistors
footprint RES: 1206
pins: 1, 2

## RC1206JR-07100KL
designator R?  value 100k  (hidden comment: RC1206JR-07100KL)
100 kOhms, 1206, ±5%, 0.25W, -55...+155°C; Manufacturer: Yageo; Package: 1206; PartNumber: RC1206JR-07100KL; HelpURL: https://eu.mouser.com/ProductDetail/YAGEO/RC1206JR-07100KL?qs=WIZk11i%252BraxMvgj3gOH5dw%3D%3D; Manufacturer Part Number: RC1206JR-07100KL; Component Type: Resistors
footprint RES: 1206
pins: 1, 2

## RC1206JR-07150RL
designator R?  value 150R  (hidden comment: RC1206JR-07150RL)
150 Ohms, 1206, ±5%, 0.25W, -55...+155°C; Manufacturer: Yageo; PartNumber: RC1206JR-07150RL; HelpURL: https://eu.mouser.com/ProductDetail/YAGEO/RC1206JR-07150RL?qs=YAUf4VTdxPPDi%2FRPTGxUIQ%3D%3D; Package: 1206; Manufacturer Part Number: RC1206JR-07150RL; Component Type: Resistors
footprint RES: 1206
pins: 1, 2

## RT0402FRE0733RL
designator R?  value 33R  (hidden comment: RT0402FRE0733RL)
33 Ohms, 0402, ±1%, 0.062W, -55...+155°C; Manufacturer: YAGEO; PartNumber: RT0402FRE0733RL; HelpURL: https://ru.mouser.com/ProductDetail/YAGEO/RT0402FRE0733RL?qs=sGAEpiMZZMtlubZbdhIBILzAkmRldA9hNgQupyNo298%3D; Package: 0402; Manufacturer: Yageo; Manufacturer Part Number: RT0402FRE0733RL; Component Type: Resistors
footprint RES: 0402
pins: 1, 2

## SQP500JB-39R
designator R?  value 39R  (hidden comment: SQP500JB-39R)
39R, SQP, ±5%, 5W, -55...+155°C; Manufacturer: Yageo; Package: 5W; HelpURL: https://www.digikey.com/en/products/detail/yageo/SQP500JB-39R/18669?s=N4IgjCBcoExaBjKAzAhgGwM4FMA0IB7KAbRBgBYBOANgpAF18AHAFyhAGUWAnASwDsA5iAC%2B%2BGAAYAHAFZ4IJJDRY8hEiADMlAAQB5ABYBbTA2ZtIIAKr9eLXcgCy2VJgCu3bKPwBaONAVQPK6qRJCkcvQiYmTqHACKAAoMIkA; PartNumber: SQP500JB-39R; Manufacturer Part Number: SQP500JB-39R; Component Type: Resistors
footprint RES: SQP 5W
pins: 1, 2